# Altium footprint library LEDs.PcbLib: 12 footprints
Each footprint in its own frame and in the unit in brackets; x right, y up, seen from the top. Pads: shape width x height; smd on the part's side, far side on the other; paste and mask are expansions set on the pad; w line width, h text height; cw(c..) or ccw(c..) is an arc to the next point about the centre after c.
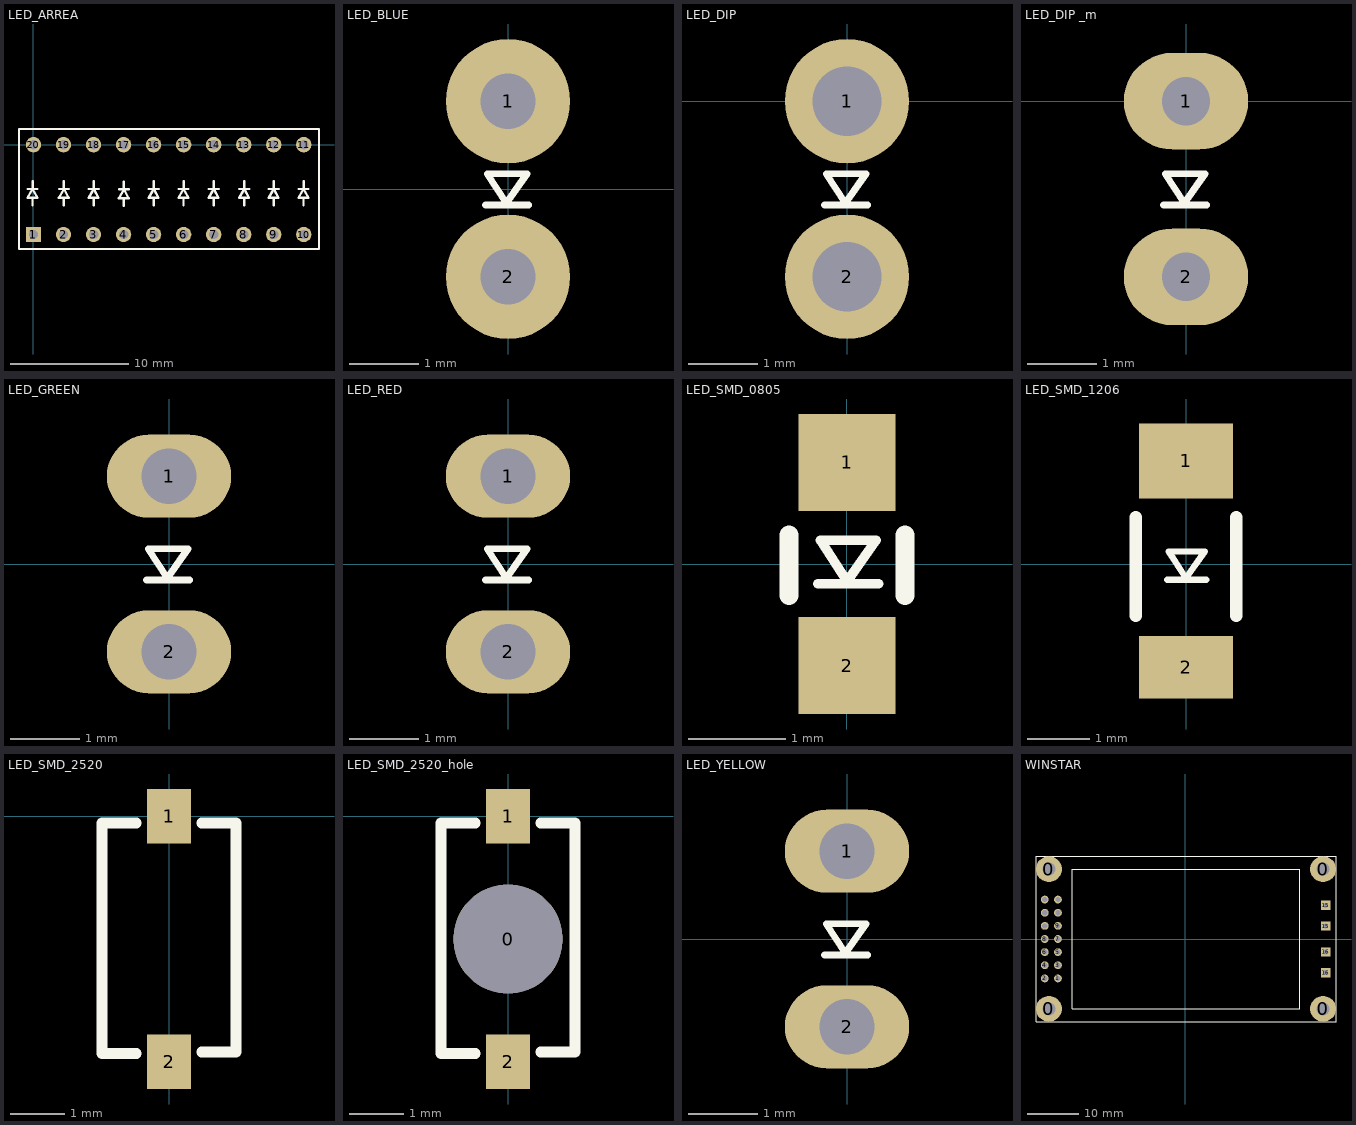
[diagram p0: the footprints below, top view; thin cyan lines are the x and y axes]

## LED_ARREA [mm]
pads (20):
  rect 1.3x1.3 hole 0.8: 1(0,-7.6)
  round 1.3 hole 0.8: 2(2.54,-7.6) 3(5.08,-7.6) 4(7.62,-7.6) 5(10.16,-7.6) 6(12.7,-7.6) 7(15.24,-7.6) 8(17.78,-7.6) 9(20.32,-7.6) 10(22.86,-7.6) 11(22.86,0) 12(20.32,0) 13(17.78,0) 14(15.24,0) 15(12.7,0) 16(10.16,0) 17(7.62,0) 18(5.08,0) 19(2.54,0) 20(0,0)
Top Overlay:
  lines w0.2: -0.487,-3.75 0.337,-3.75 ; -0.087,-5.138 -0.087,-4.5 ; -0.075,-3.1 -0.075,-3.75 ; 2.163,-3.75 2.987,-3.75 ; 2.563,-5.138 2.563,-4.5 ; 2.575,-3.1 2.575,-3.75 ; 4.688,-3.75 5.512,-3.75 ; 5.088,-5.138 5.088,-4.5 ; 5.1,-3.1 5.1,-3.75 ; 7.238,-3.775 8.062,-3.775 ; 7.638,-5.163 7.638,-4.525 ; 7.65,-3.125 7.65,-3.775 ; 9.763,-3.75 10.587,-3.75 ; 10.163,-5.138 10.163,-4.5 ; 10.175,-3.1 10.175,-3.75 ; 12.288,-3.75 13.112,-3.75 ; 12.688,-5.138 12.688,-4.5 ; 12.7,-3.1 12.7,-3.75 ; 14.838,-3.75 15.662,-3.75 ; 15.238,-5.138 15.238,-4.5 ; 15.25,-3.1 15.25,-3.75 ; 17.413,-3.75 18.237,-3.75 ; 17.813,-5.138 17.813,-4.5 ; 17.825,-3.1 17.825,-3.75 ; 19.913,-3.75 20.737,-3.75 ; 20.313,-5.138 20.313,-4.5 ; 20.325,-3.1 20.325,-3.75 ; 22.438,-3.75 23.262,-3.75 ; 22.838,-5.138 22.838,-4.5 ; 22.85,-3.1 22.85,-3.75 ; -0.075,-3.75 -0.5,-4.5 0.325,-4.5 -0.075,-3.75 ; 2.575,-3.75 2.975,-4.5 2.15,-4.5 2.575,-3.75 ; 5.1,-3.75 5.5,-4.5 4.675,-4.5 5.1,-3.75 ; 7.65,-3.775 8.05,-4.525 7.225,-4.525 7.65,-3.775 ; 10.175,-3.75 10.575,-4.5 9.75,-4.5 10.175,-3.75 ; 12.7,-3.75 13.1,-4.5 12.275,-4.5 12.7,-3.75 ; 15.25,-3.75 15.65,-4.5 14.825,-4.5 15.25,-3.75 ; 17.825,-3.75 18.225,-4.5 17.4,-4.5 17.825,-3.75 ; 20.325,-3.75 20.725,-4.5 19.9,-4.5 20.325,-3.75 ; 22.85,-3.75 23.25,-4.5 22.425,-4.5 22.85,-3.75 ; -1.225,-8.825 24.15,-8.825 24.15,1.325 -1.225,1.325 -1.225,-8.825

## LED_BLUE [mm]
pads (2):
  round 1.8 hole 0.8: 1(0,1.27) 2(0,-1.27)
Top Overlay:
  lines w0.1: -0.325,-0.23 0.3,-0.23 ; -0.3,0.22 -0.025,-0.205 0.275,0.22 -0.3,0.22
3D body: height 5.48, standoff -2, extent -1.653,-1.549 1.644,1.664

## LED_DIP [mm]
pads (2):
  round 1.8 hole 1: 1(0,0) 2(0,-2.54)
Top Overlay:
  lines w0.1: -0.325,-1.5 0.3,-1.5 ; -0.3,-1.05 -0.025,-1.475 0.275,-1.05 -0.3,-1.05

## LED_DIP _m [mm]
pads (2):
  oval 1.8x1.4 hole 0.7: 1(0,0) 2(0,-2.54)
Top Overlay:
  lines w0.1: -0.325,-1.5 0.3,-1.5 ; -0.3,-1.05 0.275,-1.05 -0.025,-1.475 -0.3,-1.05

## LED_GREEN [mm]
pads (2):
  oval 1.8x1.2 hole 0.8: 1(0,1.27) 2(0,-1.27)
Top Overlay:
  lines w0.1: -0.325,-0.23 0.3,-0.23 ; -0.3,0.22 -0.025,-0.205 0.275,0.22 -0.3,0.22
3D body: height 6.38, standoff -2.17, extent -1.994,-1.992 1.499,1.992

## LED_RED [mm]
pads (2):
  oval 1.8x1.2 hole 0.8: 1(0,1.27) 2(0,-1.27)
Top Overlay:
  lines w0.1: -0.325,-0.23 0.3,-0.23 ; -0.3,0.22 -0.025,-0.205 0.275,0.22 -0.3,0.22
3D body: height 5.88, standoff -2.68, extent -1.994,-1.992 1.499,1.992

## LED_SMD_0805 [mm]
pads (2):
  rect 1x1 smd: 1(0,1.05) 2(0,-1.05)
Top Overlay:
  lines w0.1: -0.3,-0.205 0.325,-0.205 ; -0.275,0.245 0.3,0.245 0,-0.18 -0.275,0.245
  lines w0.2: -0.6,-0.325 -0.6,0.3 ; 0.6,-0.325 0.6,0.3
3D body: height 0.85, standoff 0.01, extent -0.456,-1.031 0.45,1.031

## LED_SMD_1206 [mm]
pads (2):
  rect 1.5x1.2 smd: 1(0,1.65)
  rect 1.5x1 smd: 2(0,-1.65)
Top Overlay:
  lines w0.1: -0.3,-0.25 0.325,-0.25 ; -0.275,0.2 0.3,0.2 0,-0.225 -0.275,0.2
  lines w0.2: -0.8,-0.825 -0.8,0.75 ; 0.8,-0.825 0.8,0.75
3D body: height 1.1, standoff 0, extent -0.8,-1.65 0.8,1.55

## LED_SMD_2520 [mm]
pads (2):
  rect 0.8x1 smd: 1(0,0) 2(0,-4.5)
Top Overlay:
  lines w0.2: -0.6,-4.35 -1.225,-4.35 -1.225,-0.125 -0.6,-0.125 ; 0.6,-4.325 1.225,-4.325 1.225,-0.125 0.6,-0.125

## LED_SMD_2520_hole [mm]
pads (3):
  round 2 hole 2: 0(0,-2.25)
  rect 0.8x1 smd: 1(0,0) 2(0,-4.5)
Top Overlay:
  lines w0.2: -0.6,-4.35 -1.225,-4.35 -1.225,-0.125 -0.6,-0.125 ; 0.6,-4.325 1.225,-4.325 1.225,-0.125 0.6,-0.125

## LED_YELLOW [mm]
pads (2):
  oval 1.8x1.2 hole 0.8: 1(0,1.27) 2(0,-1.27)
Top Overlay:
  lines w0.1: -0.325,-0.23 0.3,-0.23 ; -0.3,0.22 0.275,0.22 -0.025,-0.205 -0.3,0.22
3D body: height 5.51, standoff -2.49, extent -1.64,-1.664 1.649,1.636

## WINSTAR [mm]
pads (22):
  round 5 hole 2.5: 0(-26.35,-13.5) 0(-26.35,13.5) 0(26.65,-13.5) 0(26.65,13.5)
  round 1.5 hole 1: 1(-24.61,-7.62) 2(-27.15,-7.62) 3(-24.61,-5.08) 4(-27.15,-5.08) 5(-24.61,-2.54) 6(-27.15,-2.54) 7(-24.61,0) 8(-27.15,0) 9(-24.61,2.54) 10(-27.15,2.54) 11(-24.61,5.08) 12(-27.15,5.08) 13(-24.61,7.62) 14(-27.15,7.62)
  rect 1.8x1.8 hole 1: 15(27.15,2.5) 15(27.15,6.5) 16(27.15,-6.5) 16(27.15,-2.5)
Top Overlay:
  lines w0.2: -28.85,-16 -28.85,16 29.15,16 29.15,-16 -28.85,-16 ; -21.85,-13.5 22.15,-13.5 22.15,13.5 -21.85,13.5 -21.85,-13.5
3D body: height 15.4, standoff 1.9, extent -29,-16 29,16